# Altium integrated library MLZ1608M100WTD25.IntLib: 1 symbol
Pins are listed as number, name and electrical type; pins without a type are passive.

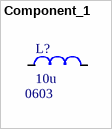
[diagram p0: symbol Component_1]

## Component_1
designator L?, comment 10u  PCB Layout:: 0603
Buying URL:: https://uk.farnell.com/tdk/mlz1608m100wt/inductor-10uh-20-shielded/dp/2215635?st=10uH%200603
footprint *INDC1608X95N
pins: 1, 2